# Altium footprint library Seeed-OPL-crystal-osctllator.PCBLIB: 41 footprints (part 3 of 3)
Each footprint in its own frame and in the unit in brackets; x right, y up, seen from the top. Pads: shape width x height; smd on the part's side, far side on the other; paste and mask are expansions set on the pad; w line width, h text height; cw(c..) or ccw(c..) is an arc to the next point about the centre after c.
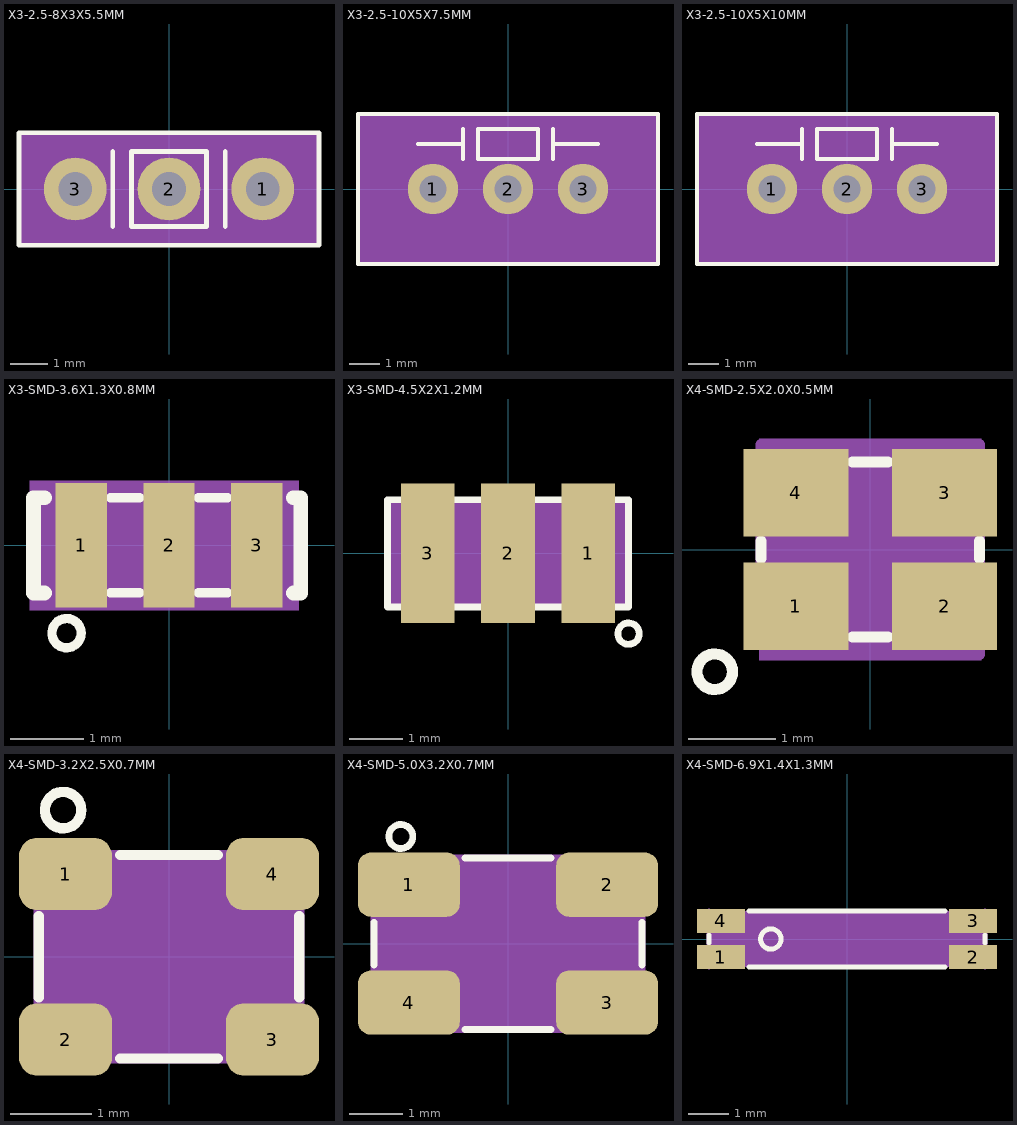
[diagram p2: the footprints below, top view; thin cyan lines are the x and y axes]

## X3-2.5-8X3X5.5MM [mil]
pads (3):
  round 66 hole 35.43: 1(98.43,0) 2(0,0) 3(-98.43,0)
Top Overlay:
  lines w5: -59.06,-39.37 -59.06,39.37 ; 59.06,-39.37 59.06,39.37 ; -157.48,-59.06 157.48,-59.06 157.48,59.06 -157.48,59.06 -157.48,-59.06 ; -39.37,-39.37 -39.37,39.37 39.37,39.37 39.37,-39.37 -39.37,-39.37
Mechanical 27:
  rectangle: -157.48,-59.06 157.48,59.06

## X3-2.5-10X5X7.5MM [mil]
pads (3):
  round 66 hole 35.43: 1(-98.43,0) 2(0,0) 3(98.43,0)
Top Overlay:
  lines w5: -118.11,59.06 -59.06,59.06 ; -59.06,39.37 -59.06,59.06 ; -59.06,78.74 -59.06,59.06 ; 59.06,39.37 59.06,59.06 ; 59.06,78.74 59.06,59.06 ; 118.11,59.06 59.06,59.06 ; -196.85,-98.43 196.85,-98.43 196.85,98.43 -196.85,98.43 -196.85,-98.43 ; -39.37,39.37 -39.37,78.74 39.37,78.74 39.37,39.37 -39.37,39.37
Mechanical 27:
  rectangle: -196.85,-98.43 196.85,98.43

## X3-2.5-10X5X10MM [mil]
pads (3):
  round 66 hole 35.43: 1(-98.43,0) 2(0,0) 3(98.43,0)
Top Overlay:
  lines w5: -118.11,59.06 -59.06,59.06 ; -59.06,39.37 -59.06,59.06 ; -59.06,78.74 -59.06,59.06 ; 59.06,39.37 59.06,59.06 ; 59.06,78.74 59.06,59.06 ; 118.11,59.06 59.06,59.06 ; -196.85,-98.43 196.85,-98.43 196.85,98.43 -196.85,98.43 -196.85,-98.43 ; -39.37,39.37 -39.37,78.74 39.37,78.74 39.37,39.37 -39.37,39.37
Mechanical 27:
  rectangle: -196.85,-98.43 196.85,98.43

## X3-SMD-3.6X1.3X0.8MM [mil]
pads (3):
  rect 27.56x66.93 smd: 1(-47.24,0) 2(0,0) 3(47.24,0)
Top Overlay:
  circle w5: c-55.12,-47.24 r7.87
  lines w5: -31.5,-25.59 -15.75,-25.59 ; -31.5,25.59 -15.75,25.59 ; 15.75,-25.59 31.5,-25.59 ; 15.75,25.59 31.5,25.59
  lines w8: -66.93,-25.59 -72.83,-25.59 -72.83,25.59 -66.93,25.59 ; 66.93,-25.59 70.87,-25.59 70.87,25.59 66.93,25.59
Mechanical 16:
  lines w5: -62.99,-25.59 62.99,-25.59 62.99,25.59 -62.99,25.59 -62.99,-25.59
Mechanical 27:
  rectangle: -75,-35 70,35

## X3-SMD-4.5X2X1.2MM [mm]
pads (3):
  rect 1x2.6 smd: 1(1.5,0) 2(0,0) 3(-1.5,0)
Top Overlay:
  circle w0.127: c2.25,-1.5 r0.2
  lines w0.127: -2,-1 -2.25,-1 -2.25,1 -2,1 ; -1,-1 -0.5,-1 ; -1,1 -0.5,1 ; 0.5,-1 1,-1 ; 0.5,1 1,1 ; 2,-1 2.25,-1 2.25,1 2,1
Top Paste:
  rectangle: -0.4,0.6 0.4,1.3
  rectangle: 1.1,0.6 1.9,1.3
  rectangle: -1.9,0.6 -1.1,1.3
  rectangle: -0.4,-1.3 0.4,-0.6
  rectangle: 1.1,-1.3 1.9,-0.6
  rectangle: -1.9,-1.3 -1.1,-0.6
Mechanical 27:
  rectangle: -2.25,-1 2.25,1

## X4-SMD-2.5X2.0X0.5MM [mm]
pads (4):
  rect 1.2x1 smd: 1(-0.85,-0.65) 2(0.85,-0.65) 3(0.85,0.65) 4(-0.85,0.65)
Top Overlay:
  circle w0.127: c-1.778,-1.397 r0.203
  lines w0.127: -1.25,-0.1 -1.25,0.1 ; -0.2,-1 0.2,-1 ; -0.2,1 0.2,1 ; 1.25,-0.1 1.25,0.1
Mechanical 16:
  lines w0.127: -1.25,-0.835 -0.884,-1.2 1.25,-1.2 1.25,1.2 -1.25,1.2 -1.25,-0.835
Mechanical 27:
  rectangle: -1.27,-1.27 1.27,1.27

## X4-SMD-3.2X2.5X0.7MM [mil]
pads (4):
  rrect50% 45x35 smd: 1(-50,40) 2(-50,-40) 3(50,-40) 4(50,40)
Top Overlay:
  circle w5: c-51.18,70.87 r8.8
  lines w5: -62.99,-19.69 -62.99,19.69 ; -23.62,-49.21 23.62,-49.21 ; -23.62,49.21 23.62,49.21 ; 62.99,-19.69 62.99,19.69
Mechanical 16:
  lines w5: -62.99,-49.21 62.99,-49.21 62.99,49.21 -62.99,49.21 -62.99,-49.21
Mechanical 27:
  rectangle: -63,-50 63,50

## X4-SMD-5.0X3.2X0.7MM [mil]
pads (4):
  rrect40% 74.8x47.24 smd: 1(-72.83,43.31) 2(72.83,43.31) 3(72.83,-43.31) 4(-72.83,-43.31)
Top Overlay:
  circle w5: c-78.74,78.74 r8.8
  lines w5: -98.43,-15.75 -98.43,15.75 ; -31.5,-62.99 31.5,-62.99 ; -31.5,62.99 31.5,62.99 ; 98.43,-15.75 98.43,15.75
Mechanical 16:
  lines w5: -98.43,-62.99 98.43,-62.99 98.43,62.99 -98.43,62.99 -98.43,-62.99
Mechanical 27:
  rectangle: -98.43,-62.99 98.43,62.99

## X4-SMD-6.9X1.4X1.3MM [mil]
pads (4):
  rect 47.24x23.62 smd: 1(-124.02,-17.72) 2(124.02,-17.72) 3(124.02,17.72) 4(-124.02,17.72)
Top Overlay:
  circle w5: c-75,0 r10
  lines w5: -135.83,-3.94 -135.83,3.94 ; -96.46,-27.56 96.46,-27.56 ; -96.46,27.56 96.46,27.56 ; 135.83,-3.94 135.83,3.94
Mechanical 16:
  lines w5: -135.83,-27.56 -135.83,27.56 ; 135.83,-27.56 135.83,27.56
Mechanical 27:
  rectangle: -135.83,-27.56 135.83,27.56